# Altium footprint library Connector_FFC-FPC.PcbLib: 372 footprints (part 11 of 24)
Each footprint in its own frame and in the unit in brackets; x right, y up, seen from the top. Pads: shape width x height; smd on the part's side, far side on the other; paste and mask are expansions set on the pad; w line width, h text height; cw(c..) or ccw(c..) is an arc to the next point about the centre after c.
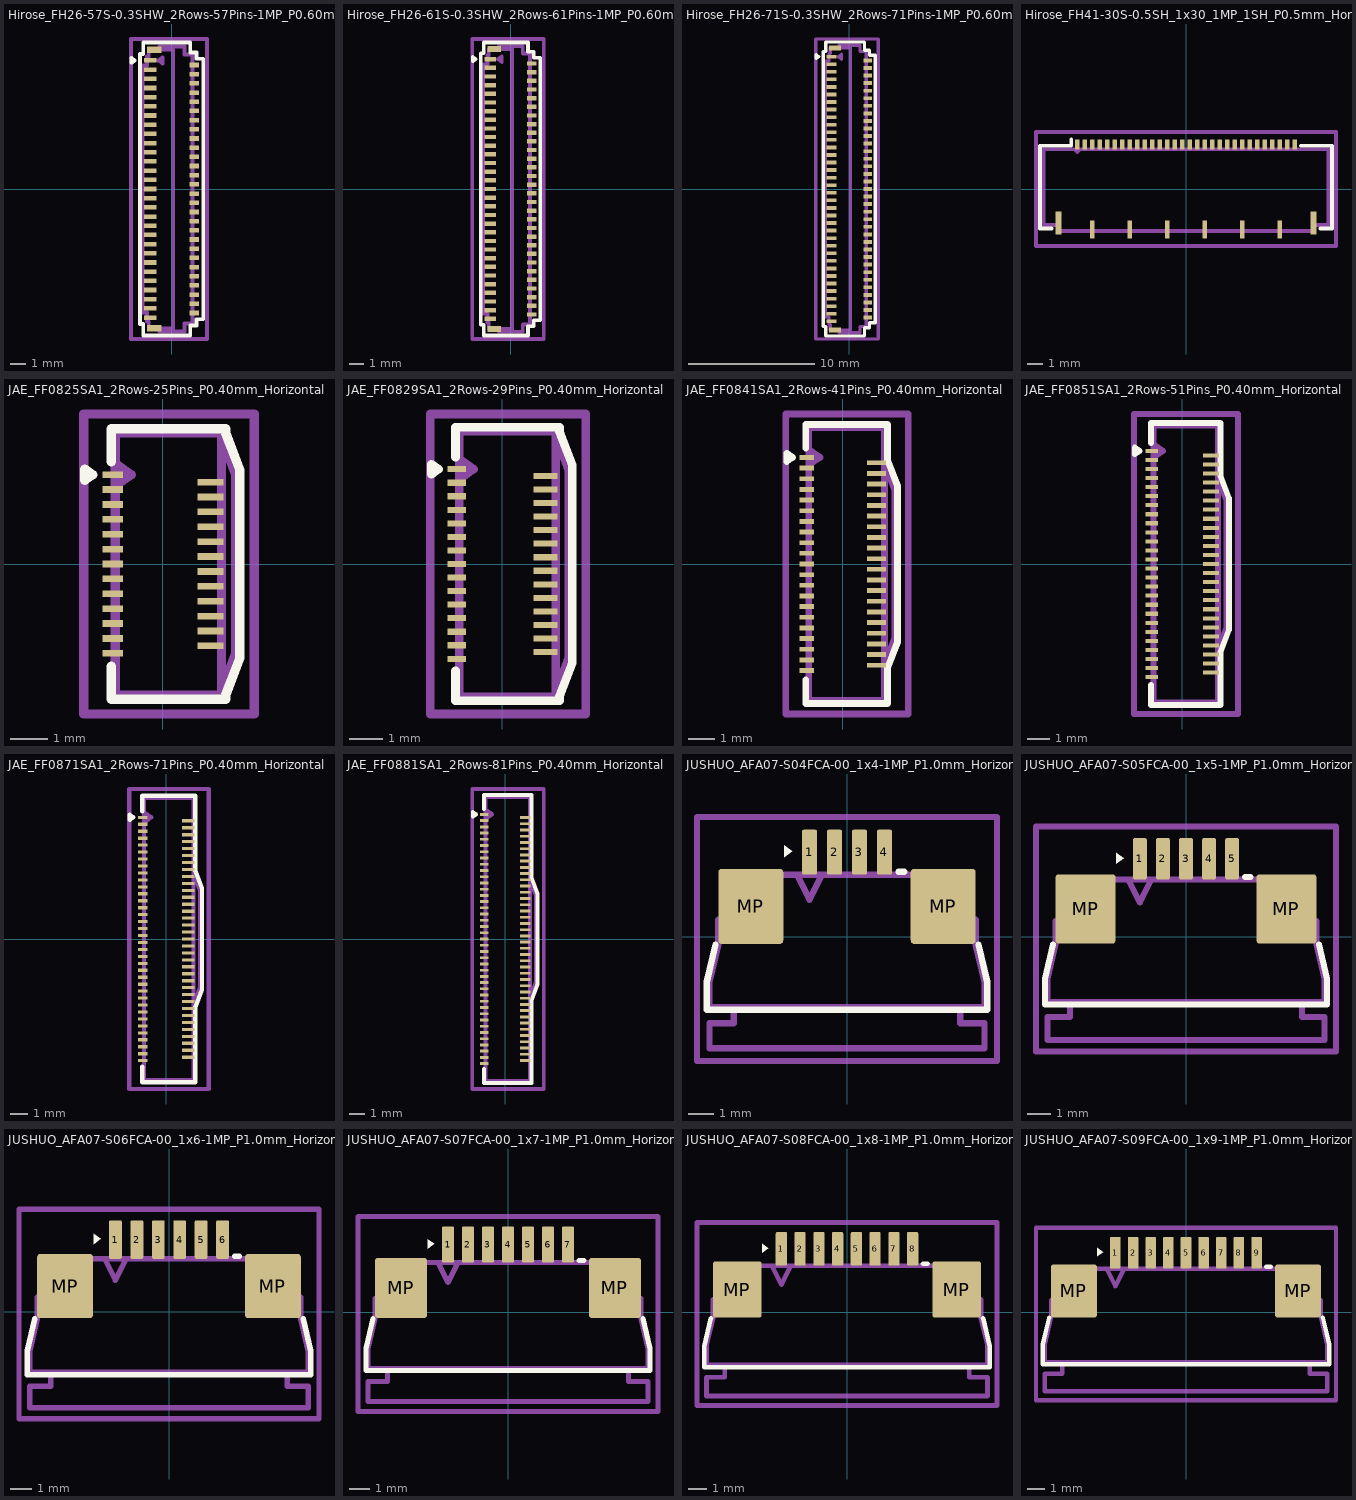
[diagram p10: the footprints below, top view; thin cyan lines are the x and y axes]

## Hirose_FH26-57S-0.3SHW_2Rows-57Pins-1MP_P0.60mm_Horizontal [mm]
pads (59):
  rect 0.8x0.3 smd: 1(-1.4,8.4) 3(-1.4,7.8) 5(-1.4,7.2) 7(-1.4,6.6) 9(-1.4,6) 11(-1.4,5.4) 13(-1.4,4.8) 15(-1.4,4.2) 17(-1.4,3.6) 19(-1.4,3) 21(-1.4,2.4) 23(-1.4,1.8) 25(-1.4,1.2) 27(-1.4,0.6) 29(-1.4,0) 31(-1.4,-0.6) 33(-1.4,-1.2) 35(-1.4,-1.8) 37(-1.4,-2.4) 39(-1.4,-3) 41(-1.4,-3.6) 43(-1.4,-4.2) 45(-1.4,-4.8) 47(-1.4,-5.4) 49(-1.4,-6) 51(-1.4,-6.6) 53(-1.4,-7.2) 55(-1.4,-7.8) 57(-1.4,-8.4)
  rect 0.65x0.3 smd: 2(1.475,8.1) 4(1.475,7.5) 6(1.475,6.9) 8(1.475,6.3) 10(1.475,5.7) 12(1.475,5.1) 14(1.475,4.5) 16(1.475,3.9) 18(1.475,3.3) 20(1.475,2.7) 22(1.475,2.1) 24(1.475,1.5) 26(1.475,0.9) 28(1.475,0.3) 30(1.475,-0.3) 32(1.475,-0.9) 34(1.475,-1.5) 36(1.475,-2.1) 38(1.475,-2.7) 40(1.475,-3.3) 42(1.475,-3.9) 44(1.475,-4.5) 46(1.475,-5.1) 48(1.475,-5.7) 50(1.475,-6.3) 52(1.475,-6.9) 54(1.475,-7.5) 56(1.475,-8.1)
  rect 0.95x0.4 smd: MP(-1.125,-9.1) MP(-1.125,9.1)
F.SilkS:
  lines w0.254: -2.622,8.25 -2.41,8.4 -2.622,8.55 -2.622,8.25 ; -2.06,-8.81 -1.86,-8.81 -1.86,-9.56 1.21,-9.56 1.21,-8.91 1.61,-8.91 1.61,-8.51 2.06,-8.51 2.06,0 2.06,8.51 1.61,8.51 1.61,8.91 1.21,8.91 1.21,9.56 -1.86,9.56 -1.86,8.81 -2.06,8.81 -2.06,0 -2.06,-8.81
Top Assembly:
  lines w0.254: -0.8,-9.11 0.1,-9.11 0.1,0 0.1,9.11 -0.8,9.11 ; -0.8,-9.11 -0.8,-9.3 0.85,-9.3 0.85,-8.8 1.35,-8.8 1.35,0 1.35,8.8 0.85,8.8 0.85,9.3 -0.8,9.3 -0.8,9.11 ; -0.8,-9.11 -1.5,-9.11 -1.5,-8.66 -1.6,-8.66 -1.6,-8.06 -1.9,-8.06 -1.9,0 -1.9,8.06 -1.6,8.06 -1.6,8.66 -1.5,8.66 -1.5,9.11 -0.8,9.11 ; -0.883,8.4 -0.6,8.6 -0.6,8.2 -0.883,8.4
  text "'.Designator'" at 1.429,-3.276 h0.81
Top Courtyard:
  lines w0.254: -2.65,-9.8 2.3,-9.8 2.3,9.8 -2.65,9.8 -2.65,-9.8
Top Designator:
  text ".Designator" at -7.793,-0.508 h1.52

## Hirose_FH26-61S-0.3SHW_2Rows-61Pins-1MP_P0.60mm_Horizontal [mm]
pads (63):
  rect 0.8x0.3 smd: 1(-1.4,9) 3(-1.4,8.4) 5(-1.4,7.8) 7(-1.4,7.2) 9(-1.4,6.6) 11(-1.4,6) 13(-1.4,5.4) 15(-1.4,4.8) 17(-1.4,4.2) 19(-1.4,3.6) 21(-1.4,3) 23(-1.4,2.4) 25(-1.4,1.8) 27(-1.4,1.2) 29(-1.4,0.6) 31(-1.4,0) 33(-1.4,-0.6) 35(-1.4,-1.2) 37(-1.4,-1.8) 39(-1.4,-2.4) 41(-1.4,-3) 43(-1.4,-3.6) 45(-1.4,-4.2) 47(-1.4,-4.8) 49(-1.4,-5.4) 51(-1.4,-6) 53(-1.4,-6.6) 55(-1.4,-7.2) 57(-1.4,-7.8) 59(-1.4,-8.4) 61(-1.4,-9)
  rect 0.65x0.3 smd: 2(1.475,8.7) 4(1.475,8.1) 6(1.475,7.5) 8(1.475,6.9) 10(1.475,6.3) 12(1.475,5.7) 14(1.475,5.1) 16(1.475,4.5) 18(1.475,3.9) 20(1.475,3.3) 22(1.475,2.7) 24(1.475,2.1) 26(1.475,1.5) 28(1.475,0.9) 30(1.475,0.3) 32(1.475,-0.3) 34(1.475,-0.9) 36(1.475,-1.5) 38(1.475,-2.1) 40(1.475,-2.7) 42(1.475,-3.3) 44(1.475,-3.9) 46(1.475,-4.5) 48(1.475,-5.1) 50(1.475,-5.7) 52(1.475,-6.3) 54(1.475,-6.9) 56(1.475,-7.5) 58(1.475,-8.1) 60(1.475,-8.7)
  rect 0.95x0.4 smd: MP(-1.125,-9.7) MP(-1.125,9.7)
F.SilkS:
  lines w0.254: -2.622,8.85 -2.41,9 -2.622,9.15 -2.622,8.85 ; -2.06,-9.41 -1.86,-9.41 -1.86,-10.16 1.21,-10.16 1.21,-9.51 1.61,-9.51 1.61,-9.11 2.06,-9.11 2.06,0 2.06,9.11 1.61,9.11 1.61,9.51 1.21,9.51 1.21,10.16 -1.86,10.16 -1.86,9.41 -2.06,9.41 -2.06,0 -2.06,-9.41
Top Assembly:
  lines w0.254: -0.8,-9.71 0.1,-9.71 0.1,0 0.1,9.71 -0.8,9.71 ; -0.8,-9.71 -0.8,-9.9 0.85,-9.9 0.85,-9.4 1.35,-9.4 1.35,0 1.35,9.4 0.85,9.4 0.85,9.9 -0.8,9.9 -0.8,9.71 ; -0.8,-9.71 -1.5,-9.71 -1.5,-9.26 -1.6,-9.26 -1.6,-8.66 -1.9,-8.66 -1.9,0 -1.9,8.66 -1.6,8.66 -1.6,9.26 -1.5,9.26 -1.5,9.71 -0.8,9.71 ; -0.883,9 -0.6,9.2 -0.6,8.8 -0.883,9
  text "'.Designator'" at 1.429,-3.276 h0.81
Top Courtyard:
  lines w0.254: -2.65,-10.4 2.3,-10.4 2.3,10.4 -2.65,10.4 -2.65,-10.4
Top Designator:
  text ".Designator" at -7.793,-0.508 h1.52

## Hirose_FH26-71S-0.3SHW_2Rows-71Pins-1MP_P0.60mm_Horizontal [mm]
pads (73):
  rect 0.8x0.3 smd: 1(-1.4,10.5) 3(-1.4,9.9) 5(-1.4,9.3) 7(-1.4,8.7) 9(-1.4,8.1) 11(-1.4,7.5) 13(-1.4,6.9) 15(-1.4,6.3) 17(-1.4,5.7) 19(-1.4,5.1) 21(-1.4,4.5) 23(-1.4,3.9) 25(-1.4,3.3) 27(-1.4,2.7) 29(-1.4,2.1) 31(-1.4,1.5) 33(-1.4,0.9) 35(-1.4,0.3) 37(-1.4,-0.3) 39(-1.4,-0.9) 41(-1.4,-1.5) 43(-1.4,-2.1) 45(-1.4,-2.7) 47(-1.4,-3.3) 49(-1.4,-3.9) 51(-1.4,-4.5) 53(-1.4,-5.1) 55(-1.4,-5.7) 57(-1.4,-6.3) 59(-1.4,-6.9) 61(-1.4,-7.5) 63(-1.4,-8.1) 65(-1.4,-8.7) 67(-1.4,-9.3) 69(-1.4,-9.9) 71(-1.4,-10.5)
  rect 0.65x0.3 smd: 2(1.475,10.2) 4(1.475,9.6) 6(1.475,9) 8(1.475,8.4) 10(1.475,7.8) 12(1.475,7.2) 14(1.475,6.6) 16(1.475,6) 18(1.475,5.4) 20(1.475,4.8) 22(1.475,4.2) 24(1.475,3.6) 26(1.475,3) 28(1.475,2.4) 30(1.475,1.8) 32(1.475,1.2) 34(1.475,0.6) 36(1.475,0) 38(1.475,-0.6) 40(1.475,-1.2) 42(1.475,-1.8) 44(1.475,-2.4) 46(1.475,-3) 48(1.475,-3.6) 50(1.475,-4.2) 52(1.475,-4.8) 54(1.475,-5.4) 56(1.475,-6) 58(1.475,-6.6) 60(1.475,-7.2) 62(1.475,-7.8) 64(1.475,-8.4) 66(1.475,-9) 68(1.475,-9.6) 70(1.475,-10.2)
  rect 0.95x0.4 smd: MP(-1.125,-11.2) MP(-1.125,11.2)
F.SilkS:
  lines w0.254: -2.622,10.35 -2.41,10.5 -2.622,10.65 -2.622,10.35 ; -2.06,-10.91 -1.86,-10.91 -1.86,-11.66 1.21,-11.66 1.21,-11.01 1.61,-11.01 1.61,-10.61 2.06,-10.61 2.06,0 2.06,10.61 1.61,10.61 1.61,11.01 1.21,11.01 1.21,11.66 -1.86,11.66 -1.86,10.91 -2.06,10.91 -2.06,0 -2.06,-10.91
Top Assembly:
  lines w0.254: -0.8,-11.21 0.1,-11.21 0.1,0 0.1,11.21 -0.8,11.21 ; -0.8,-11.21 -0.8,-11.4 0.85,-11.4 0.85,-10.9 1.35,-10.9 1.35,0 1.35,10.9 0.85,10.9 0.85,11.4 -0.8,11.4 -0.8,11.21 ; -0.8,-11.21 -1.5,-11.21 -1.5,-10.76 -1.6,-10.76 -1.6,-10.16 -1.9,-10.16 -1.9,0 -1.9,10.16 -1.6,10.16 -1.6,10.76 -1.5,10.76 -1.5,11.21 -0.8,11.21 ; -0.883,10.5 -0.6,10.7 -0.6,10.3 -0.883,10.5
  text "'.Designator'" at 1.429,-3.276 h0.81
Top Courtyard:
  lines w0.254: -2.65,-11.9 2.3,-11.9 2.3,11.9 -2.65,11.9 -2.65,-11.9
Top Designator:
  text ".Designator" at -7.793,-0.508 h1.52

## Hirose_FH41-30S-0.5SH_1x30_1MP_1SH_P0.5mm_Horizontal [mm]
pads (38):
  rect 0.3x0.65 smd: 1(-7.25,2.975) 2(-6.75,2.975) 3(-6.25,2.975) 4(-5.75,2.975) 5(-5.25,2.975) 6(-4.75,2.975) 7(-4.25,2.975) 8(-3.75,2.975) 9(-3.25,2.975) 10(-2.75,2.975) 11(-2.25,2.975) 12(-1.75,2.975) 13(-1.25,2.975) 14(-0.75,2.975) 15(-0.25,2.975) 16(0.25,2.975) 17(0.75,2.975) 18(1.25,2.975) 19(1.75,2.975) 20(2.25,2.975) 21(2.75,2.975) 22(3.25,2.975) 23(3.75,2.975) 24(4.25,2.975) 25(4.75,2.975) 26(5.25,2.975) 27(5.75,2.975) 28(6.25,2.975) 29(6.75,2.975) 30(7.25,2.975)
  rect 0.4x1.55 smd: MP(-8.5,-2.275) MP(8.5,-2.275)
  rect 0.3x1.2 smd: SH(-6.25,-2.7) SH(-3.75,-2.7) SH(-1.25,-2.7) SH(1.25,-2.7) SH(3.75,-2.7) SH(6.25,-2.7)
F.SilkS:
  lines w0.254: -8.96,-2.63 -9.73,-2.63 -9.73,2.88 -7.66,2.88 ; -7.65,2.88 -7.65,3.3 ; 7.66,2.88 9.73,2.88 9.73,-2.63 8.96,-2.63
Top Assembly:
  lines w0.254: -7.45,2.65 -7.25,2.45 -7.05,2.65 ; -9.5,-2.4 -8.475,-2.4 -8.475,-2.8 8.475,-2.8 8.475,-2.4 9.5,-2.4 9.5,2.65 -9.5,2.65 -9.5,-2.4
  text "'.Designator'" at -4.047,-0.915 h1
Top Courtyard:
  lines w0.254: -10,-3.8 10,-3.8 10,3.8 -10,3.8 -10,-3.8
Top Designator:
  text ".Designator" at -7.618,-0.508 h1.52

## JAE_FF0825SA1_2Rows-25Pins_P0.40mm_Horizontal [mm]
pads (25):
  rect 0.55x0.18 smd: 1(-1.35,2.4) 3(-1.35,2) 5(-1.35,1.6) 7(-1.35,1.2) 9(-1.35,0.8) 11(-1.35,0.4) 13(-1.35,0) 15(-1.35,-0.4) 17(-1.35,-0.8) 19(-1.35,-1.2) 21(-1.35,-1.6) 23(-1.35,-2) 25(-1.35,-2.4)
  rect 0.7x0.18 smd: 2(1.275,2.2) 4(1.275,1.8) 6(1.275,1.4) 8(1.275,1) 10(1.275,0.6) 12(1.275,0.2) 14(1.275,-0.2) 16(1.275,-0.6) 18(1.275,-1) 20(1.275,-1.4) 22(1.275,-1.8) 24(1.275,-2.2)
F.SilkS:
  lines w0.254: -1.385,-2.75 -1.385,-3.635 1.685,-3.635 1.685,-3.535 2.065,-2.535 2.065,0 2.065,2.535 1.685,3.535 1.685,3.635 -1.385,3.635 -1.385,2.75 ; -2.097,2.25 -1.885,2.4 -2.097,2.55 -2.097,2.25
Top Assembly:
  lines w0.254: -1.275,2.1 -0.851,2.4 -1.275,2.7 ; 1.575,-3.425 1.955,-2.425 1.955,2.425 1.575,3.425 ; -1.275,-3.525 1.575,-3.525 1.575,3.525 -1.275,3.525 -1.275,-3.525
  text "'.Designator'" at 1.62,-2.877 h0.71
Top Courtyard:
  lines w0.254: -2.13,-4.03 2.46,-4.03 2.46,4.03 -2.13,4.03 -2.13,-4.03
Top Designator:
  text ".Designator" at -7.453,-0.508 h1.52

## JAE_FF0829SA1_2Rows-29Pins_P0.40mm_Horizontal [mm]
pads (29):
  rect 0.55x0.18 smd: 1(-1.35,2.8) 3(-1.35,2.4) 5(-1.35,2) 7(-1.35,1.6) 9(-1.35,1.2) 11(-1.35,0.8) 13(-1.35,0.4) 15(-1.35,0) 17(-1.35,-0.4) 19(-1.35,-0.8) 21(-1.35,-1.2) 23(-1.35,-1.6) 25(-1.35,-2) 27(-1.35,-2.4) 29(-1.35,-2.8)
  rect 0.7x0.18 smd: 2(1.275,2.6) 4(1.275,2.2) 6(1.275,1.8) 8(1.275,1.4) 10(1.275,1) 12(1.275,0.6) 14(1.275,0.2) 16(1.275,-0.2) 18(1.275,-0.6) 20(1.275,-1) 22(1.275,-1.4) 24(1.275,-1.8) 26(1.275,-2.2) 28(1.275,-2.6)
F.SilkS:
  lines w0.254: -1.385,-3.15 -1.385,-4.035 1.685,-4.035 1.685,-3.91 2.065,-2.91 2.065,0 2.065,2.91 1.685,3.91 1.685,4.035 -1.385,4.035 -1.385,3.15 ; -2.097,2.65 -1.885,2.8 -2.097,2.95 -2.097,2.65
Top Assembly:
  lines w0.254: -1.275,2.5 -0.851,2.8 -1.275,3.1 ; 1.575,-3.8 1.955,-2.8 1.955,2.8 1.575,3.8 ; -1.275,-3.925 1.575,-3.925 1.575,3.925 -1.275,3.925 -1.275,-3.925
  text "'.Designator'" at 1.62,-2.877 h0.71
Top Courtyard:
  lines w0.254: -2.13,-4.43 2.46,-4.43 2.46,4.43 -2.13,4.43 -2.13,-4.43
Top Designator:
  text ".Designator" at -7.453,-0.508 h1.52

## JAE_FF0841SA1_2Rows-41Pins_P0.40mm_Horizontal [mm]
pads (41):
  rect 0.55x0.18 smd: 1(-1.35,4) 3(-1.35,3.6) 5(-1.35,3.2) 7(-1.35,2.8) 9(-1.35,2.4) 11(-1.35,2) 13(-1.35,1.6) 15(-1.35,1.2) 17(-1.35,0.8) 19(-1.35,0.4) 21(-1.35,0) 23(-1.35,-0.4) 25(-1.35,-0.8) 27(-1.35,-1.2) 29(-1.35,-1.6) 31(-1.35,-2) 33(-1.35,-2.4) 35(-1.35,-2.8) 37(-1.35,-3.2) 39(-1.35,-3.6) 41(-1.35,-4)
  rect 0.7x0.18 smd: 2(1.275,3.8) 4(1.275,3.4) 6(1.275,3) 8(1.275,2.6) 10(1.275,2.2) 12(1.275,1.8) 14(1.275,1.4) 16(1.275,1) 18(1.275,0.6) 20(1.275,0.2) 22(1.275,-0.2) 24(1.275,-0.6) 26(1.275,-1) 28(1.275,-1.4) 30(1.275,-1.8) 32(1.275,-2.2) 34(1.275,-2.6) 36(1.275,-3) 38(1.275,-3.4) 40(1.275,-3.8)
F.SilkS:
  lines w0.254: -1.385,-4.35 -1.385,-5.235 1.685,-5.235 1.685,-3.91 2.065,-2.91 2.065,0 2.065,2.91 1.685,3.91 1.685,5.235 -1.385,5.235 -1.385,4.35 ; -2.097,3.85 -1.885,4 -2.097,4.15 -2.097,3.85
Top Assembly:
  lines w0.254: -1.275,3.7 -0.851,4 -1.275,4.3 ; 1.575,-3.8 1.955,-2.8 1.955,2.8 1.575,3.8 ; -1.275,-5.125 1.575,-5.125 1.575,5.125 -1.275,5.125 -1.275,-5.125
  text "'.Designator'" at 1.62,-2.877 h0.71
Top Courtyard:
  lines w0.254: -2.13,-5.63 2.46,-5.63 2.46,5.63 -2.13,5.63 -2.13,-5.63
Top Designator:
  text ".Designator" at -7.453,-0.508 h1.52

## JAE_FF0851SA1_2Rows-51Pins_P0.40mm_Horizontal [mm]
pads (51):
  rect 0.55x0.18 smd: 1(-1.35,5) 3(-1.35,4.6) 5(-1.35,4.2) 7(-1.35,3.8) 9(-1.35,3.4) 11(-1.35,3) 13(-1.35,2.6) 15(-1.35,2.2) 17(-1.35,1.8) 19(-1.35,1.4) 21(-1.35,1) 23(-1.35,0.6) 25(-1.35,0.2) 27(-1.35,-0.2) 29(-1.35,-0.6) 31(-1.35,-1) 33(-1.35,-1.4) 35(-1.35,-1.8) 37(-1.35,-2.2) 39(-1.35,-2.6) 41(-1.35,-3) 43(-1.35,-3.4) 45(-1.35,-3.8) 47(-1.35,-4.2) 49(-1.35,-4.6) 51(-1.35,-5)
  rect 0.7x0.18 smd: 2(1.275,4.8) 4(1.275,4.4) 6(1.275,4) 8(1.275,3.6) 10(1.275,3.2) 12(1.275,2.8) 14(1.275,2.4) 16(1.275,2) 18(1.275,1.6) 20(1.275,1.2) 22(1.275,0.8) 24(1.275,0.4) 26(1.275,0) 28(1.275,-0.4) 30(1.275,-0.8) 32(1.275,-1.2) 34(1.275,-1.6) 36(1.275,-2) 38(1.275,-2.4) 40(1.275,-2.8) 42(1.275,-3.2) 44(1.275,-3.6) 46(1.275,-4) 48(1.275,-4.4) 50(1.275,-4.8)
F.SilkS:
  lines w0.254: -1.385,-5.35 -1.385,-6.235 1.685,-6.235 1.685,-3.91 2.065,-2.91 2.065,0 2.065,2.91 1.685,3.91 1.685,6.235 -1.385,6.235 -1.385,5.35 ; -2.097,4.85 -1.885,5 -2.097,5.15 -2.097,4.85
Top Assembly:
  lines w0.254: -1.275,4.7 -0.851,5 -1.275,5.3 ; 1.575,-3.8 1.955,-2.8 1.955,2.8 1.575,3.8 ; -1.275,-6.125 1.575,-6.125 1.575,6.125 -1.275,6.125 -1.275,-6.125
  text "'.Designator'" at 1.62,-2.877 h0.71
Top Courtyard:
  lines w0.254: -2.13,-6.63 2.46,-6.63 2.46,6.63 -2.13,6.63 -2.13,-6.63
Top Designator:
  text ".Designator" at -7.453,-0.508 h1.52

## JAE_FF0871SA1_2Rows-71Pins_P0.40mm_Horizontal [mm]
pads (71):
  rect 0.55x0.18 smd: 1(-1.35,7) 3(-1.35,6.6) 5(-1.35,6.2) 7(-1.35,5.8) 9(-1.35,5.4) 11(-1.35,5) 13(-1.35,4.6) 15(-1.35,4.2) 17(-1.35,3.8) 19(-1.35,3.4) 21(-1.35,3) 23(-1.35,2.6) 25(-1.35,2.2) 27(-1.35,1.8) 29(-1.35,1.4) 31(-1.35,1) 33(-1.35,0.6) 35(-1.35,0.2) 37(-1.35,-0.2) 39(-1.35,-0.6) 41(-1.35,-1) 43(-1.35,-1.4) 45(-1.35,-1.8) 47(-1.35,-2.2) 49(-1.35,-2.6) 51(-1.35,-3) 53(-1.35,-3.4) 55(-1.35,-3.8) 57(-1.35,-4.2) 59(-1.35,-4.6) 61(-1.35,-5) 63(-1.35,-5.4) 65(-1.35,-5.8) 67(-1.35,-6.2) 69(-1.35,-6.6) 71(-1.35,-7)
  rect 0.7x0.18 smd: 2(1.275,6.8) 4(1.275,6.4) 6(1.275,6) 8(1.275,5.6) 10(1.275,5.2) 12(1.275,4.8) 14(1.275,4.4) 16(1.275,4) 18(1.275,3.6) 20(1.275,3.2) 22(1.275,2.8) 24(1.275,2.4) 26(1.275,2) 28(1.275,1.6) 30(1.275,1.2) 32(1.275,0.8) 34(1.275,0.4) 36(1.275,0) 38(1.275,-0.4) 40(1.275,-0.8) 42(1.275,-1.2) 44(1.275,-1.6) 46(1.275,-2) 48(1.275,-2.4) 50(1.275,-2.8) 52(1.275,-3.2) 54(1.275,-3.6) 56(1.275,-4) 58(1.275,-4.4) 60(1.275,-4.8) 62(1.275,-5.2) 64(1.275,-5.6) 66(1.275,-6) 68(1.275,-6.4) 70(1.275,-6.8)
F.SilkS:
  lines w0.254: -1.385,-7.35 -1.385,-8.235 1.685,-8.235 1.685,-3.91 2.065,-2.91 2.065,0 2.065,2.91 1.685,3.91 1.685,8.235 -1.385,8.235 -1.385,7.35 ; -2.097,6.85 -1.885,7 -2.097,7.15 -2.097,6.85
Top Assembly:
  lines w0.254: -1.275,6.7 -0.851,7 -1.275,7.3 ; 1.575,-3.8 1.955,-2.8 1.955,2.8 1.575,3.8 ; -1.275,-8.125 1.575,-8.125 1.575,8.125 -1.275,8.125 -1.275,-8.125
  text "'.Designator'" at 1.62,-2.877 h0.71
Top Courtyard:
  lines w0.254: -2.13,-8.63 2.46,-8.63 2.46,8.63 -2.13,8.63 -2.13,-8.63
Top Designator:
  text ".Designator" at -7.453,-0.508 h1.52

## JAE_FF0881SA1_2Rows-81Pins_P0.40mm_Horizontal [mm]
pads (81):
  rect 0.55x0.18 smd: 1(-1.35,8) 3(-1.35,7.6) 5(-1.35,7.2) 7(-1.35,6.8) 9(-1.35,6.4) 11(-1.35,6) 13(-1.35,5.6) 15(-1.35,5.2) 17(-1.35,4.8) 19(-1.35,4.4) 21(-1.35,4) 23(-1.35,3.6) 25(-1.35,3.2) 27(-1.35,2.8) 29(-1.35,2.4) 31(-1.35,2) 33(-1.35,1.6) 35(-1.35,1.2) 37(-1.35,0.8) 39(-1.35,0.4) 41(-1.35,0) 43(-1.35,-0.4) 45(-1.35,-0.8) 47(-1.35,-1.2) 49(-1.35,-1.6) 51(-1.35,-2) 53(-1.35,-2.4) 55(-1.35,-2.8) 57(-1.35,-3.2) 59(-1.35,-3.6) 61(-1.35,-4) 63(-1.35,-4.4) 65(-1.35,-4.8) 67(-1.35,-5.2) 69(-1.35,-5.6) 71(-1.35,-6) 73(-1.35,-6.4) 75(-1.35,-6.8) 77(-1.35,-7.2) 79(-1.35,-7.6) 81(-1.35,-8)
  rect 0.7x0.18 smd: 2(1.275,7.8) 4(1.275,7.4) 6(1.275,7) 8(1.275,6.6) 10(1.275,6.2) 12(1.275,5.8) 14(1.275,5.4) 16(1.275,5) 18(1.275,4.6) 20(1.275,4.2) 22(1.275,3.8) 24(1.275,3.4) 26(1.275,3) 28(1.275,2.6) 30(1.275,2.2) 32(1.275,1.8) 34(1.275,1.4) 36(1.275,1) 38(1.275,0.6) 40(1.275,0.2) 42(1.275,-0.2) 44(1.275,-0.6) 46(1.275,-1) 48(1.275,-1.4) 50(1.275,-1.8) 52(1.275,-2.2) 54(1.275,-2.6) 56(1.275,-3) 58(1.275,-3.4) 60(1.275,-3.8) 62(1.275,-4.2) 64(1.275,-4.6) 66(1.275,-5) 68(1.275,-5.4) 70(1.275,-5.8) 72(1.275,-6.2) 74(1.275,-6.6) 76(1.275,-7) 78(1.275,-7.4) 80(1.275,-7.8)
F.SilkS:
  lines w0.254: -1.385,-8.35 -1.385,-9.235 1.685,-9.235 1.685,-3.91 2.065,-2.91 2.065,0 2.065,2.91 1.685,3.91 1.685,9.235 -1.385,9.235 -1.385,8.35 ; -2.097,7.85 -1.885,8 -2.097,8.15 -2.097,7.85
Top Assembly:
  lines w0.254: -1.275,7.7 -0.851,8 -1.275,8.3 ; 1.575,-3.8 1.955,-2.8 1.955,2.8 1.575,3.8 ; -1.275,-9.125 1.575,-9.125 1.575,9.125 -1.275,9.125 -1.275,-9.125
  text "'.Designator'" at 1.62,-2.877 h0.71
Top Courtyard:
  lines w0.254: -2.13,-9.63 2.46,-9.63 2.46,9.63 -2.13,9.63 -2.13,-9.63
Top Designator:
  text ".Designator" at -7.453,-0.508 h1.52

## JUSHUO_AFA07-S04FCA-00_1x4-1MP_P1.0mm_Horizontal [mm]
pads (6):
  rrect25% 0.6x1.8 smd: 1(-1.5,3.375) 2(-0.5,3.375) 3(0.5,3.375) 4(1.5,3.375)
  rrect10% 2.6x3 smd: MP(-3.85,1.205) MP(3.85,1.205)
F.SilkS:
  region: -2.19,3.405 -2.52,3.165 -2.52,3.645
  lines w0.254: -5.26,-0.325 -5.61,-1.825 -5.61,-2.935 5.61,-2.935 5.61,-1.825 5.26,-0.325 ; 2.06,2.585 2.29,2.585
Top Assembly:
  lines w0.254: -4.525,-2.825 -4.525,-3.475 -5.5,-3.475 -5.5,-4.475 5.5,-4.475 5.5,-3.475 4.525,-3.475 4.525,-2.825 ; -2,2.475 -1.5,1.475 -1,2.475 ; -5.5,-2.825 5.5,-2.825 5.5,-1.825 5.15,-0.325 5.15,0.675 4.525,0.675 4.525,2.475 -4.525,2.475 -4.525,0.675 -5.15,0.675 -5.15,-0.325 -5.5,-1.825 -5.5,-2.825
  text "'.Designator'" at -4.047,-1.02 h1
Top Courtyard:
  lines w0.254: -6,-4.98 6,-4.98 6,4.78 -6,4.78 -6,-4.98
Top Designator:
  text ".Designator" at -7.618,-0.608 h1.52

## JUSHUO_AFA07-S05FCA-00_1x5-1MP_P1.0mm_Horizontal [mm]
pads (7):
  rrect25% 0.6x1.8 smd: 1(-2,3.375) 2(-1,3.375) 3(0,3.375) 4(1,3.375) 5(2,3.375)
  rrect10% 2.6x3 smd: MP(-4.35,1.205) MP(4.35,1.205)
F.SilkS:
  region: -2.69,3.405 -3.02,3.165 -3.02,3.645
  lines w0.254: -5.76,-0.325 -6.11,-1.825 -6.11,-2.935 6.11,-2.935 6.11,-1.825 5.76,-0.325 ; 2.56,2.585 2.79,2.585
Top Assembly:
  lines w0.254: -5.025,-2.825 -5.025,-3.475 -6,-3.475 -6,-4.475 6,-4.475 6,-3.475 5.025,-3.475 5.025,-2.825 ; -2.5,2.475 -2,1.475 -1.5,2.475 ; -6,-2.825 6,-2.825 6,-1.825 5.65,-0.325 5.65,0.675 5.025,0.675 5.025,2.475 -5.025,2.475 -5.025,0.675 -5.65,0.675 -5.65,-0.325 -6,-1.825 -6,-2.825
  text "'.Designator'" at -4.047,-1.02 h1
Top Courtyard:
  lines w0.254: -6.5,-4.98 6.5,-4.98 6.5,4.78 -6.5,4.78 -6.5,-4.98
Top Designator:
  text ".Designator" at -7.618,-0.608 h1.52

## JUSHUO_AFA07-S06FCA-00_1x6-1MP_P1.0mm_Horizontal [mm]
pads (8):
  rrect25% 0.6x1.8 smd: 1(-2.5,3.375) 2(-1.5,3.375) 3(-0.5,3.375) 4(0.5,3.375) 5(1.5,3.375) 6(2.5,3.375)
  rrect10% 2.6x3 smd: MP(-4.85,1.205) MP(4.85,1.205)
F.SilkS:
  region: -3.19,3.405 -3.52,3.165 -3.52,3.645
  lines w0.254: -6.26,-0.325 -6.61,-1.825 -6.61,-2.935 6.61,-2.935 6.61,-1.825 6.26,-0.325 ; 3.06,2.585 3.29,2.585
Top Assembly:
  lines w0.254: -5.525,-2.825 -5.525,-3.475 -6.5,-3.475 -6.5,-4.475 6.5,-4.475 6.5,-3.475 5.525,-3.475 5.525,-2.825 ; -3,2.475 -2.5,1.475 -2,2.475 ; -6.5,-2.825 6.5,-2.825 6.5,-1.825 6.15,-0.325 6.15,0.675 5.525,0.675 5.525,2.475 -5.525,2.475 -5.525,0.675 -6.15,0.675 -6.15,-0.325 -6.5,-1.825 -6.5,-2.825
  text "'.Designator'" at -4.047,-1.02 h1
Top Courtyard:
  lines w0.254: -7,-4.98 7,-4.98 7,4.78 -7,4.78 -7,-4.98
Top Designator:
  text ".Designator" at -7.618,-0.608 h1.52

## JUSHUO_AFA07-S07FCA-00_1x7-1MP_P1.0mm_Horizontal [mm]
pads (9):
  rrect25% 0.6x1.8 smd: 1(-3,3.375) 2(-2,3.375) 3(-1,3.375) 4(0,3.375) 5(1,3.375) 6(2,3.375) 7(3,3.375)
  rrect10% 2.6x3 smd: MP(-5.35,1.205) MP(5.35,1.205)
F.SilkS:
  region: -3.69,3.405 -4.02,3.165 -4.02,3.645
  lines w0.254: -6.76,-0.325 -7.11,-1.825 -7.11,-2.935 7.11,-2.935 7.11,-1.825 6.76,-0.325 ; 3.56,2.585 3.79,2.585
Top Assembly:
  lines w0.254: -6.025,-2.825 -6.025,-3.475 -7,-3.475 -7,-4.475 7,-4.475 7,-3.475 6.025,-3.475 6.025,-2.825 ; -3.5,2.475 -3,1.475 -2.5,2.475 ; -7,-2.825 7,-2.825 7,-1.825 6.65,-0.325 6.65,0.675 6.025,0.675 6.025,2.475 -6.025,2.475 -6.025,0.675 -6.65,0.675 -6.65,-0.325 -7,-1.825 -7,-2.825
  text "'.Designator'" at -4.047,-1.02 h1
Top Courtyard:
  lines w0.254: -7.5,-4.98 7.5,-4.98 7.5,4.78 -7.5,4.78 -7.5,-4.98
Top Designator:
  text ".Designator" at -7.618,-0.608 h1.52

## JUSHUO_AFA07-S08FCA-00_1x8-1MP_P1.0mm_Horizontal [mm]
pads (10):
  rrect25% 0.6x1.8 smd: 1(-3.5,3.375) 2(-2.5,3.375) 3(-1.5,3.375) 4(-0.5,3.375) 5(0.5,3.375) 6(1.5,3.375) 7(2.5,3.375) 8(3.5,3.375)
  rrect10% 2.6x3 smd: MP(-5.85,1.205) MP(5.85,1.205)
F.SilkS:
  region: -4.19,3.405 -4.52,3.165 -4.52,3.645
  lines w0.254: -7.26,-0.325 -7.61,-1.825 -7.61,-2.935 7.61,-2.935 7.61,-1.825 7.26,-0.325 ; 4.06,2.585 4.29,2.585
Top Assembly:
  lines w0.254: -6.525,-2.825 -6.525,-3.475 -7.5,-3.475 -7.5,-4.475 7.5,-4.475 7.5,-3.475 6.525,-3.475 6.525,-2.825 ; -4,2.475 -3.5,1.475 -3,2.475 ; -7.5,-2.825 7.5,-2.825 7.5,-1.825 7.15,-0.325 7.15,0.675 6.525,0.675 6.525,2.475 -6.525,2.475 -6.525,0.675 -7.15,0.675 -7.15,-0.325 -7.5,-1.825 -7.5,-2.825
  text "'.Designator'" at -4.047,-1.02 h1
Top Courtyard:
  lines w0.254: -8,-4.98 8,-4.98 8,4.78 -8,4.78 -8,-4.98
Top Designator:
  text ".Designator" at -7.618,-0.608 h1.52

## JUSHUO_AFA07-S09FCA-00_1x9-1MP_P1.0mm_Horizontal [mm]
pads (11):
  rrect25% 0.6x1.8 smd: 1(-4,3.375) 2(-3,3.375) 3(-2,3.375) 4(-1,3.375) 5(0,3.375) 6(1,3.375) 7(2,3.375) 8(3,3.375) 9(4,3.375)
  rrect10% 2.6x3 smd: MP(-6.35,1.205) MP(6.35,1.205)
F.SilkS:
  region: -4.69,3.405 -5.02,3.165 -5.02,3.645
  lines w0.254: -7.76,-0.325 -8.11,-1.825 -8.11,-2.935 8.11,-2.935 8.11,-1.825 7.76,-0.325 ; 4.56,2.585 4.79,2.585
Top Assembly:
  lines w0.254: -7.025,-2.825 -7.025,-3.475 -8,-3.475 -8,-4.475 8,-4.475 8,-3.475 7.025,-3.475 7.025,-2.825 ; -4.5,2.475 -4,1.475 -3.5,2.475 ; -8,-2.825 8,-2.825 8,-1.825 7.65,-0.325 7.65,0.675 7.025,0.675 7.025,2.475 -7.025,2.475 -7.025,0.675 -7.65,0.675 -7.65,-0.325 -8,-1.825 -8,-2.825
  text "'.Designator'" at -4.047,-1.02 h1
Top Courtyard:
  lines w0.254: -8.5,-4.98 8.5,-4.98 8.5,4.78 -8.5,4.78 -8.5,-4.98
Top Designator:
  text ".Designator" at -7.618,-0.608 h1.52